# Altium footprint library EFM8LB12F64E_QFN32.PcbLib: 1 footprints
Each footprint in its own frame and in the unit in brackets; x right, y up, seen from the top. Pads: shape width x height; smd on the part's side, far side on the other; paste and mask are expansions set on the pad; w line width, h text height; cw(c..) or ccw(c..) is an arc to the next point about the centre after c.
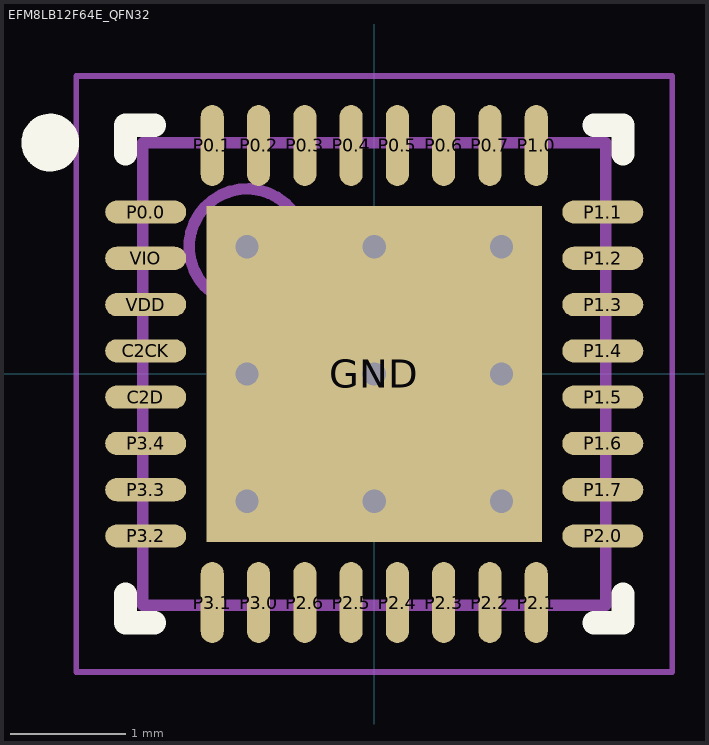
[diagram p0: the footprint, top view; thin cyan lines are the x and y axes]

## EFM8LB12F64E_QFN32 [mm] "8051 8-bit Microcontroller from Silicon Labs"
height 0.1
pads (33):
  oval 0.7x0.2 smd: C2CK(-1.975,0.2) C2D(-1.975,-0.2) P0.0(-1.975,1.4) P1.1(1.975,1.4) P1.2(1.975,1) P1.3(1.975,0.6) P1.4(1.975,0.2) P1.5(1.975,-0.2) P1.6(1.975,-0.6) P1.7(1.975,-1) P2.0(1.975,-1.4) P3.2(-1.975,-1.4) P3.3(-1.975,-1) P3.4(-1.975,-0.6) VDD(-1.975,0.6) VIO(-1.975,1)
  rect 2.9x2.9 smd: GND(0,0)
  oval 0.2x0.7 smd: P0.1(-1.4,1.975) P0.2(-1,1.975) P0.3(-0.6,1.975) P0.4(-0.2,1.975) P0.5(0.2,1.975) P0.6(0.6,1.975) P0.7(1,1.975) P1.0(1.4,1.975) P2.1(1.4,-1.975) P2.2(1,-1.975) P2.3(0.6,-1.975) P2.4(0.2,-1.975) P2.5(-0.2,-1.975) P2.6(-0.6,-1.975) P3.0(-1,-1.975) P3.1(-1.4,-1.975)
via 1.1,-1.1 diameter 0.5 hole 0.2
via 0,-1.1 diameter 0.5 hole 0.2
via -1.1,-1.1 diameter 0.5 hole 0.2
via 1.1,0 diameter 0.5 hole 0.2
via 0,0 diameter 0.5 hole 0.2
via -1.1,0 diameter 0.5 hole 0.2
via 1.1,1.1 diameter 0.5 hole 0.2
via 0,1.1 diameter 0.5 hole 0.2
via -1.1,1.1 diameter 0.5 hole 0.2
Top Overlay:
  circle w0.25: c-2.8,2 r0.125
  lines w0.2: -2.15,-1.9 -2.15,-2.15 -1.9,-2.15 ; -2.15,1.9 -2.15,2.15 -1.9,2.15 ; 1.9,-2.15 2.15,-2.15 2.15,-1.9 ; 1.9,2.15 2.15,2.15 2.15,1.9
Assembly Top:
  circle w0.1: c-1.1,1.1 r0.5
  lines w0.1: -2,-2 2,-2 2,2 -2,2 -2,-2
Courtyard Top:
  lines w0.05: -2.575,-2.575 2.575,-2.575 2.575,2.575 -2.575,2.575 -2.575,-2.575
  lines w0.1: -0.5,0 0.5,0 ; 0,-0.5 0,0.5
3D body: height 0.5, standoff 0.04, extent -2,-2 2,2